# Altium schematic symbol library 691 243 100 0xx.SchLib: 7 symbols
Pins are listed as number, name and electrical type; pins without a type are passive.

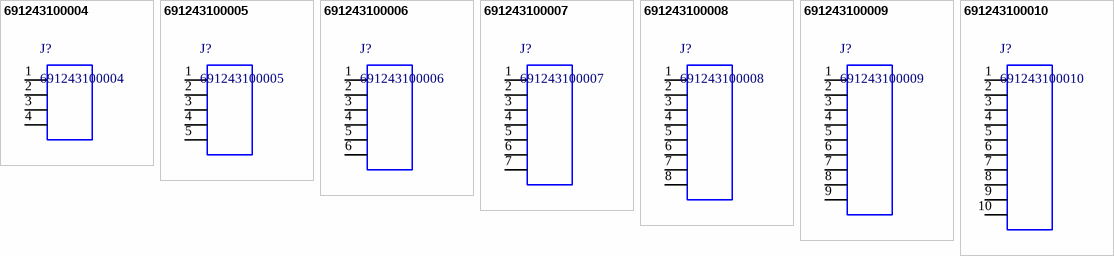
[diagram p0: symbols 691243100004 to 691243100010]

## 691243100004
designator J?
WR-TBL Terminal Blocks Serie 2431 - 3.50 mm; Manufacturer: Wurth Elektronik; ComponentLink1 Description: Manufacturer; ComponentLink2 Description: Datasheet; ComponentLink1URL: http://www.we-online.de; ComponentLink2URL: http://katalog.we-online.de/em/datasheet/6912431000XX.pdf; Created by: Baojun Chen; Created Date: 9.Sep.2015; partNo: 691243100004
footprint 691243100004 (Serie 2431 - 3.50 mm _ 4 pins)
pins: 1, 2, 3, 4

## 691243100005
designator J?
WR-TBL Terminal Blocks Serie 2431 - 3.50 mm; Manufacturer: Wurth Elektronik; ComponentLink1 Description: Manufacturer; ComponentLink2 Description: Datasheet; ComponentLink1URL: http://www.we-online.de; ComponentLink2URL: http://katalog.we-online.de/em/datasheet/6912431000XX.pdf; Created by: Baojun Chen; Created Date: 9.Sep.2015; partNo: 691243100005
footprint 691243100005 (Serie 2431 - 3.50 mm _ 5 pins)
pins: 1, 2, 3, 4, 5

## 691243100006
designator J?
WR-TBL Terminal Blocks Serie 2431 - 3.50 mm; Manufacturer: Wurth Elektronik; ComponentLink1 Description: Manufacturer; ComponentLink2 Description: Datasheet; ComponentLink1URL: http://www.we-online.de; ComponentLink2URL: http://katalog.we-online.de/em/datasheet/6912431000XX.pdf; Created by: Baojun Chen; Created Date: 9.Sep.2015; partNo: 691243100006
footprint 691243100006 (Serie 2431 - 3.50 mm _ 6 pins)
pins: 1, 2, 3, 4, 5, 6

## 691243100007
designator J?
WR-TBL Terminal Blocks Serie 2431 - 3.50 mm; Manufacturer: Wurth Elektronik; ComponentLink1 Description: Manufacturer; ComponentLink2 Description: Datasheet; ComponentLink1URL: http://www.we-online.de; ComponentLink2URL: http://katalog.we-online.de/em/datasheet/6912431000XX.pdf; Created by: Baojun Chen; Created Date: 9.Sep.2015; partNo: 691243100007
footprint 691243100007 (Serie 2431 - 3.50 mm _ 7 pins)
pins: 1, 2, 3, 4, 5, 6, 7

## 691243100008
designator J?
WR-TBL Terminal Blocks Serie 2431 - 3.50 mm; Manufacturer: Wurth Elektronik; ComponentLink1 Description: Manufacturer; ComponentLink2 Description: Datasheet; ComponentLink1URL: http://www.we-online.de; ComponentLink2URL: http://katalog.we-online.de/em/datasheet/6912431000XX.pdf; Created by: Baojun Chen; Created Date: 9.Sep.2015; partNo: 691243100008
footprint 691243100008 (Serie 2431 - 3.50 mm _ 8 pins)
pins: 1, 2, 3, 4, 5, 6, 7, 8

## 691243100009
designator J?
WR-TBL Terminal Blocks Serie 2431 - 3.50 mm; Manufacturer: Wurth Elektronik; ComponentLink1 Description: Manufacturer; ComponentLink2 Description: Datasheet; ComponentLink1URL: http://www.we-online.de; ComponentLink2URL: http://katalog.we-online.de/em/datasheet/6912431000XX.pdf; Created by: Baojun Chen; Created Date: 9.Sep.2015; partNo: 691243100009
footprint 691243100009 (Serie 2431 - 3.50 mm _ 9 pins)
pins: 1, 2, 3, 4, 5, 6, 7, 8, 9

## 691243100010
designator J?
WR-TBL Terminal Blocks Serie 2431 - 3.50 mm; Manufacturer: Wurth Elektronik; ComponentLink1 Description: Manufacturer; ComponentLink2 Description: Datasheet; ComponentLink1URL: http://www.we-online.de; ComponentLink2URL: http://katalog.we-online.de/em/datasheet/6912431000XX.pdf; Created by: Baojun Chen; Created Date: 9.Sep.2015; partNo: 691243100010
footprint 691243100010 (Serie 2431 - 3.50 mm _ 10 pins)
pins: 1, 2, 3, 4, 5, 6, 7, 8, 9, 10